# Altium footprint library TSSOP-24.PcbLib: 1 footprints
Each footprint in its own frame and in the unit in brackets; x right, y up, seen from the top. Pads: shape width x height; smd on the part's side, far side on the other; paste and mask are expansions set on the pad; w line width, h text height; cw(c..) or ccw(c..) is an arc to the next point about the centre after c.
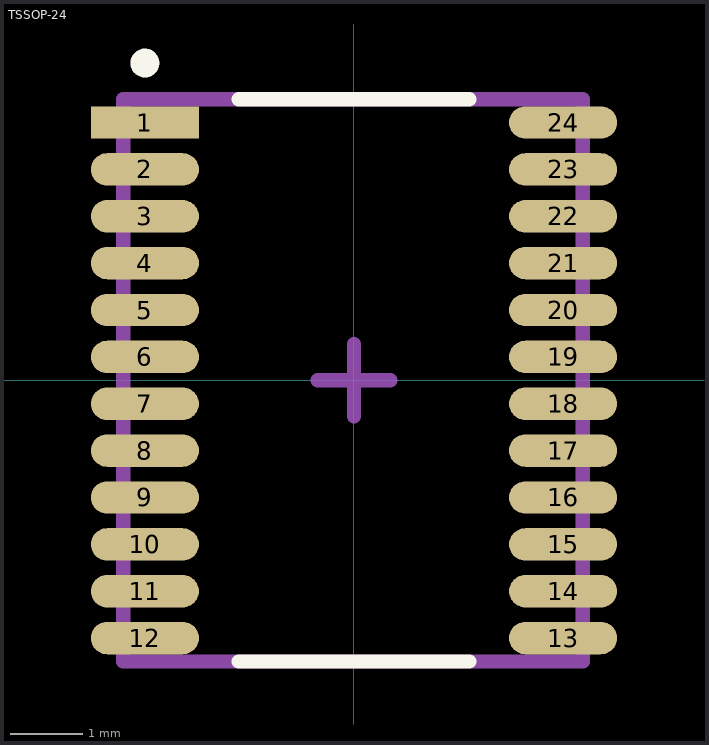
[diagram p0: the footprint, top view; thin cyan lines are the x and y axes]

## TSSOP-24 [mm]
pads (24):
  rect 1.5x0.45 smd mask+0.05: 1(-2.9,3.575)
  oval 1.5x0.45 smd mask+0.05: 2(-2.9,2.925) 3(-2.9,2.275) 4(-2.9,1.625) 5(-2.9,0.975) 6(-2.9,0.325) 7(-2.9,-0.325) 8(-2.9,-0.975) 9(-2.9,-1.625) 10(-2.9,-2.275) 11(-2.9,-2.925) 12(-2.9,-3.575) 13(2.9,-3.575) 14(2.9,-2.925) 15(2.9,-2.275) 16(2.9,-1.625) 17(2.9,-0.975) 18(2.9,-0.325) 19(2.9,0.325) 20(2.9,0.975) 21(2.9,1.625) 22(2.9,2.275) 23(2.9,2.925) 24(2.9,3.575)
Top Overlay:
  circle w0.2: c-2.9,4.4 r0.1
  lines w0.2: -1.6,-3.9 1.6,-3.9 ; -1.6,3.9 1.6,3.9
Top Designator:
  text ".Designator" at -7.618,-0.208 h1.52
3D Body:
  lines w0.2: -3.2,-3.9 3.175,-3.9 3.175,3.9 -3.2,3.9 -3.2,-3.9
Center Cross:
  lines w0.2: -0.5,0 0.5,0 ; 0,-0.5 0,0.5
3D body "TSSOP-24.STEP": height 1.21, standoff 0.01, extent -3.2,-3.9 3.2,3.9